# Altium schematic symbol library SnapEDAsch.SchLib: 1 symbol
Pins are listed as number, name and electrical type; pins without a type are passive.

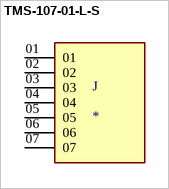
[diagram p0: symbol TMS-107-01-L-S]

## TMS-107-01-L-S
designator J
MF: Samtec; MP: TMS-107-01-L-S; Package: None; Value: *; Availability: Unavailable; Price: None
footprint SAMTEC_TMS-107-01-L-S
pins: 01, 02, 03, 04, 05, 06, 07